# Altium schematic symbol library Switch.SchLib: 58 symbols
Pins are listed as number, name and electrical type; pins without a type are passive.

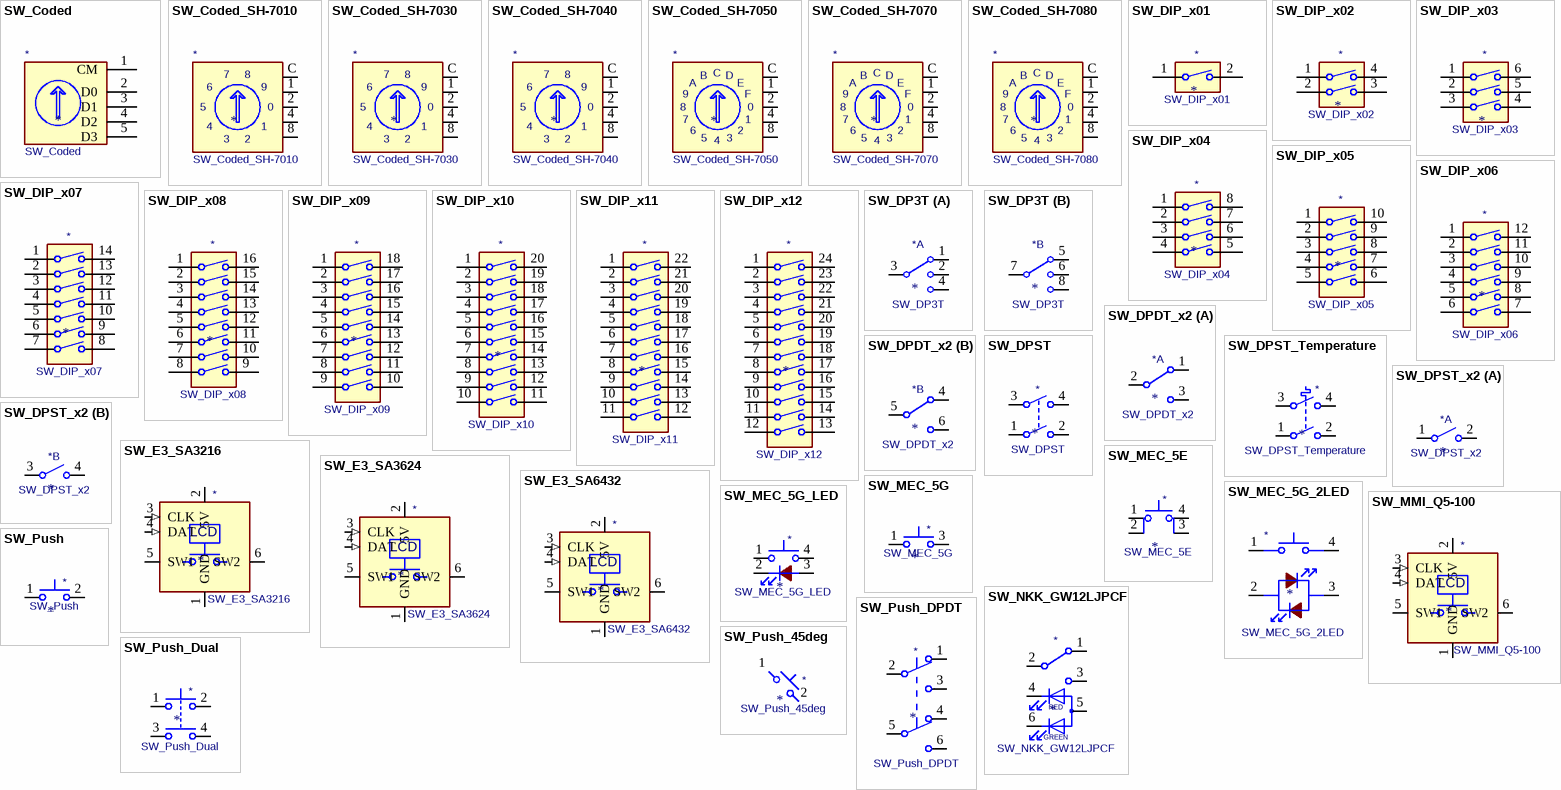
[diagram p0: symbols SW_Coded to SW_Push_Dual]

## SW_Coded
designator *  value SW_Coded
ki_keywords: rotary hex; ki_description: Rotary switch, 4-bit encoding; Supplier: ~
pins: 1 CM, 2 D0, 3 D1, 4 D2, 5 D3

## SW_Coded_SH-7010
designator *  value SW_Coded_SH-7010
ki_keywords: rotary bcd Real; ki_description: Rotary switch, 4-bit encoding, 10 positions, Real code; ki_fp_filters: Nidec*Copal*SH*7010*; Supplier: https://www.nidec-copal-electronics.com/e/catalog/switch/sh-7000.pdf
pins: 1, 2, 4, 8, C
text: 7; 6; 9; 5; 0; 3

## SW_Coded_SH-7030
designator *  value SW_Coded_SH-7030
ki_keywords: rotary bcd Complementary; ki_description: Rotary switch, 4-bit encoding, 10 positions, Complementary code; ki_fp_filters: Nidec*Copal*SH*7010*; Supplier: https://www.nidec-copal-electronics.com/e/catalog/switch/sh-7000.pdf
pins: 1, 2, 4, 8, C
text: 7; 6; 9; 5; 0; 3

## SW_Coded_SH-7040
designator *  value SW_Coded_SH-7040
ki_keywords: rotary bcd Gray; ki_description: Rotary switch, 4-bit encoding, 10 positions, Gray code; ki_fp_filters: Nidec*Copal*SH*7040*; Footprint: Button_Switch_SMD:Nidec_Copal_SH-7040B; Supplier: https://www.nidec-copal-electronics.com/e/catalog/switch/sh-7000.pdf
footprint Nidec_Copal_SH-7040B
pins: 1, 2, 4, 8, C
text: 7; 6; 9; 5; 0; 3

## SW_Coded_SH-7050
designator *  value SW_Coded_SH-7050
ki_keywords: rotary hex Real; ki_description: Rotary switch, 4-bit encoding, 16 positions, Real code; ki_fp_filters: Nidec*Copal*SH*7010*; Supplier: https://www.nidec-copal-electronics.com/e/catalog/switch/sh-7000.pdf
pins: 1, 2, 4, 8, C
text: B; D; A; E; 9; F; 0; 7; 6; 5; 3

## SW_Coded_SH-7070
designator *  value SW_Coded_SH-7070
ki_keywords: rotary hex Complementary; ki_description: Rotary switch, 4-bit encoding, 16 positions, Complementary code; ki_fp_filters: Nidec*Copal*SH*7010*; Supplier: https://www.nidec-copal-electronics.com/e/catalog/switch/sh-7000.pdf
pins: 1, 2, 4, 8, C
text: B; D; A; E; 9; F; 0; 7; 6; 5; 3

## SW_Coded_SH-7080
designator *  value SW_Coded_SH-7080
ki_keywords: rotary hex Gray; ki_description: Rotary switch, 4-bit encoding, 16 positions, Gray code; ki_fp_filters: Nidec*Copal*SH*7040*; Footprint: Button_Switch_SMD:Nidec_Copal_SH-7040B; Supplier: https://www.nidec-copal-electronics.com/e/catalog/switch/sh-7000.pdf
footprint Nidec_Copal_SH-7040B
pins: 1, 2, 4, 8, C
text: B; D; A; E; 9; F; 0; 7; 6; 5; 3

## SW_DIP_x01
designator *  value SW_DIP_x01
ki_keywords: dip switch; ki_description: 1x DIP Switch, Single Pole Single Throw (SPST) switch, small symbol; ki_fp_filters: SW?DIP?x1*; Supplier: ~
pins: 1, 2

## SW_DIP_x02
designator *  value SW_DIP_x02
ki_keywords: dip switch; ki_description: 2x DIP Switch, Single Pole Single Throw (SPST) switch, small symbol; ki_fp_filters: SW?DIP?x2*; Supplier: ~
pins: 1, 2, 3, 4

## SW_DIP_x03
designator *  value SW_DIP_x03
ki_keywords: dip switch; ki_description: 3x DIP Switch, Single Pole Single Throw (SPST) switch, small symbol; ki_fp_filters: SW?DIP?x3*; Supplier: ~
pins: 1, 2, 3, 4, 5, 6

## SW_DIP_x04
designator *  value SW_DIP_x04
ki_keywords: dip switch; ki_description: 4x DIP Switch, Single Pole Single Throw (SPST) switch, small symbol; ki_fp_filters: SW?DIP?x4*; Supplier: ~
pins: 1, 2, 3, 4, 5, 6, 7, 8

## SW_DIP_x05
designator *  value SW_DIP_x05
ki_keywords: dip switch; ki_description: 5x DIP Switch, Single Pole Single Throw (SPST) switch, small symbol; ki_fp_filters: SW?DIP?x5*; Supplier: ~
pins: 1, 2, 3, 4, 5, 6, 7, 8, 9, 10

## SW_DIP_x06
designator *  value SW_DIP_x06
ki_keywords: dip switch; ki_description: 6x DIP Switch, Single Pole Single Throw (SPST) switch, small symbol; ki_fp_filters: SW?DIP?x6*; Supplier: ~
pins: 1, 2, 3, 4, 5, 6, 7, 8, 9, 10, 11, 12

## SW_DIP_x07
designator *  value SW_DIP_x07
ki_keywords: dip switch; ki_description: 7x DIP Switch, Single Pole Single Throw (SPST) switch, small symbol; ki_fp_filters: SW?DIP?x7*; Supplier: ~
pins: 1, 2, 3, 4, 5, 6, 7, 8, 9, 10, 11, 12, 13, 14

## SW_DIP_x08
designator *  value SW_DIP_x08
ki_keywords: dip switch; ki_description: 8x DIP Switch, Single Pole Single Throw (SPST) switch, small symbol; ki_fp_filters: SW?DIP?x8*; Supplier: ~
pins: 1, 2, 3, 4, 5, 6, 7, 8, 9, 10, 11, 12, 13, 14, 15, 16

## SW_DIP_x09
designator *  value SW_DIP_x09
ki_keywords: dip switch; ki_description: 9x DIP Switch, Single Pole Single Throw (SPST) switch, small symbol; ki_fp_filters: SW?DIP?x9*; Supplier: ~
pins: 1, 2, 3, 4, 5, 6, 7, 8, 9, 10, 11, 12, 13, 14, 15, 16, 17, 18

## SW_DIP_x10
designator *  value SW_DIP_x10
ki_keywords: dip switch; ki_description: 10x DIP Switch, Single Pole Single Throw (SPST) switch, small symbol; ki_fp_filters: SW?DIP?x10*; Supplier: ~
pins: 1, 2, 3, 4, 5, 6, 7, 8, 9, 10, 11, 12, 13, 14, 15, 16, 17, 18, 19, 20

## SW_DIP_x11
designator *  value SW_DIP_x11
ki_keywords: dip switch; ki_description: 11x DIP Switch, Single Pole Single Throw (SPST) switch, small symbol; ki_fp_filters: SW?DIP?x11*; Supplier: ~
pins: 1, 2, 3, 4, 5, 6, 7, 8, 9, 10, 11, 12, 13, 14, 15, 16, 17, 18, 19, 20, 21, 22

## SW_DIP_x12
designator *  value SW_DIP_x12
ki_keywords: dip switch; ki_description: 12x DIP Switch, Single Pole Single Throw (SPST) switch, small symbol; ki_fp_filters: SW?DIP?x12*; Supplier: ~
pins: 1, 2, 3, 4, 5, 6, 7, 8, 9, 10, 11, 12, 13, 14, 15, 16, 17, 18, 19, 20, 21, 22, 23, 24

## SW_DP3T
designator *  value SW_DP3T
ki_keywords: switch dp3t ON-ON-ON; ki_description: Switch, three position, dual pole triple throw, 3 position switch, SP3T; ki_fp_filters: SW* DP3T*; Supplier: ~
part A pins: 1, 2, 3, 4
part B pins: 5, 6, 7, 8

## SW_DPDT_x2
designator *  value SW_DPDT_x2
ki_keywords: switch dual-pole double-throw DPDT spdt ON-ON; ki_description: Switch, dual pole double throw, separate symbols; ki_fp_filters: SW*DPDT*; Supplier: ~
part A pins: 1 A, 2 B, 3 C
part B pins: 4 A, 5 B, 6 C

## SW_DPST
designator *  value SW_DPST
ki_keywords: switch dual double-pole single-throw OFF-ON; ki_description: Double Pole Single Throw (DPST) Switch; Supplier: ~
pins: 1, 2, 3, 4

## SW_DPST_Temperature
designator *  value SW_DPST_Temperature
ki_keywords: temperature switch dual double-pole single-throw OFF-ON; ki_description: Double Pole Single Throw (DPST) Switch, temperature dependent; Supplier: ~
pins: 1, 2, 3, 4

## SW_DPST_x2
designator *  value SW_DPST_x2
ki_keywords: switch lever; ki_description: Single Pole Single Throw (SPST) switch, separate symbol; Supplier: ~
part A pins: 1 A, 2 B
part B pins: 3 A, 4 B

## SW_E3_SA3216
designator *  value SW_E3_SA3216
ki_keywords: switch normally-open pushbutton push-button LCD; ki_description: Push button switch with LCD screen; ki_fp_filters: SW?PUSH?LCD?E3?SAxxxx*; Supplier: http://www.e3-keys.com/files/SA%20Technical%20Datasheet%20v2.0.pdf
pins: 1 GND (power), 2 5V (power), 3 CLK (in), 4 DAT (in), 5 SW1, 6 SW2
text: LCD

## SW_E3_SA3624
designator *  value SW_E3_SA3624
ki_keywords: switch normally-open pushbutton push-button LCD; ki_description: Push button switch with LCD screen; ki_fp_filters: SW?PUSH?LCD?E3?SAxxxx*; Supplier: http://www.e3-keys.com/files/SA%20Technical%20Datasheet%20v2.0.pdf
pins: 1 GND (power), 2 5V (power), 3 CLK (in), 4 DAT (in), 5 SW1, 6 SW2
text: LCD

## SW_E3_SA6432
designator *  value SW_E3_SA6432
ki_keywords: switch normally-open pushbutton push-button LCD; ki_description: Push button switch with LCD screen; ki_fp_filters: SW?PUSH?LCD?E3?SAxxxx*; Supplier: http://www.e3-keys.com/files/SA%20Technical%20Datasheet%20v2.0.pdf
pins: 1 GND (power), 2 5V (power), 3 CLK (in), 4 DAT (in), 5 SW1, 6 SW2
text: LCD

## SW_MEC_5E
designator *  value SW_MEC_5E
ki_keywords: switch normally-open pushbutton push-button; ki_description: MEC 5E single pole normally-open tactile switch; ki_fp_filters: SW*MEC*5G*; Supplier: http://www.apem.com/int/index.php?controller=attachment&id_attachment=1371
pins: 1, 2, 3 K, 4 A

## SW_MEC_5G
designator *  value SW_MEC_5G
ki_keywords: switch normally-open pushbutton push-button; ki_description: MEC 5G single pole normally-open tactile switch; ki_fp_filters: SW*MEC*5G*; Supplier: http://www.apem.com/int/index.php?controller=attachment&id_attachment=488
pins: 1 A, 2 A hidden, 3 B, 4 B hidden

## SW_MEC_5G_2LED
designator *  value SW_MEC_5G_2LED
ki_keywords: switch normally-open pushbutton push-button LED; ki_description: MEC 5G single pole normally-open illuminated tactile switch with two LEDs; ki_fp_filters: SW*MEC*5G*; Supplier: http://www.apem.com/int/index.php?controller=attachment&id_attachment=488
pins: 1, 2, 3 K, 4 A

## SW_MEC_5G_LED
designator *  value SW_MEC_5G_LED
ki_keywords: switch normally-open pushbutton push-button LED; ki_description: MEC 5G single pole normally-open illuminated tactile switch; ki_fp_filters: SW*MEC*5G*; Supplier: http://www.apem.com/int/index.php?controller=attachment&id_attachment=488
pins: 1, 2, 3 K, 4 A

## SW_MMI_Q5-100
designator *  value SW_MMI_Q5-100
ki_keywords: switch normally-open pushbutton push-button LCD; ki_description: Push button switch with LCD screen; ki_fp_filters: SW?PUSH?LCD?E3?SAxxxx*; Supplier: http://latest.ledswitches.co.uk/media/pdf/Q5-PCB-V1-withQ5data.pdf
pins: 1 GND (power), 2 5V (power), 3 CLK (in), 4 DAT (in), 5 SW1, 6 SW2
text: LCD

## SW_NKK_GW12LJPCF
designator *  value SW_NKK_GW12LJPCF
ki_keywords: switch single-pole double-throw spdt ON-ON illuminated red green; ki_description: Switch, single pole double throw, illuminated paddle, red and green LEDs; ki_fp_filters: SW*NKK*GW12LJP*; Footprint: Button_Switch_THT:SW_NKK_GW12LJP; Supplier: http://www.nkkswitches.com/pdf/gwillum.pdf
footprint SW_NKK_GW12LJP
pins: 1 A, 2 B, 3 C, 4 KR, 5 A, 6 KG
text: RED; GREEN

## SW_Push
designator *  value SW_Push
ki_keywords: switch normally-open pushbutton push-button; ki_description: Push button switch, generic, two pins; Supplier: ~
pins: 1, 2

## SW_Push_45deg
designator *  value SW_Push_45deg
ki_keywords: switch normally-open pushbutton push-button; ki_description: Push button switch, normally open, two pins, 45° tilted; Supplier: ~
pins: 1, 2

## SW_Push_DPDT
designator *  value SW_Push_DPDT
ki_keywords: switch dual-pole double-throw spdt ON-ON; ki_description: Momentary Switch, dual pole double throw; Supplier: ~
pins: 1 A, 2 B, 3 C, 4 A, 5 B, 6 C

## SW_Push_Dual
designator *  value SW_Push_Dual
ki_keywords: switch normally-open pushbutton push-button; ki_description: Push button switch, generic, symbol, four pins; Supplier: ~
pins: 1, 2, 3, 4

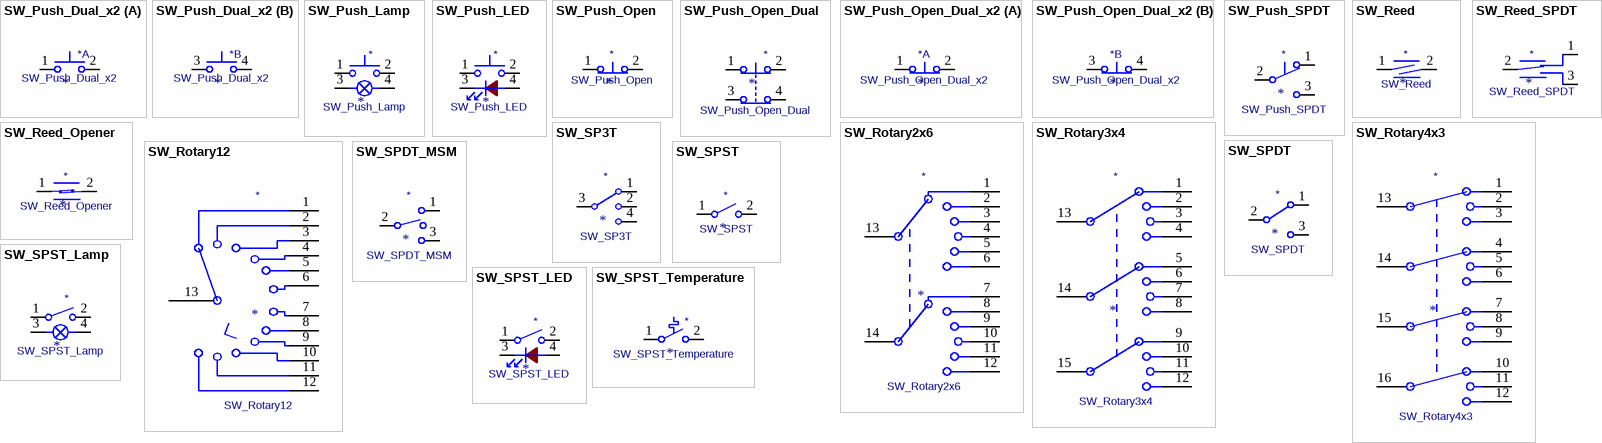
[diagram p1: symbols SW_Push_Dual_x2 to SW_SPST_Temperature]

## SW_Push_Dual_x2
designator *  value SW_Push_Dual_x2
ki_keywords: switch normally-open pushbutton push-button; ki_description: Push button switch, generic, separate symbols, four pins; Supplier: ~
part A pins: 1 C, 2 D
part B pins: 3 C, 4 D

## SW_Push_Lamp
designator *  value SW_Push_Lamp
ki_keywords: switch normally-open pushbutton push-button Lamp; ki_description: Push button switch with Signal Lamp, generic; Supplier: ~
pins: 1, 2, 3 L, 4 L

## SW_Push_LED
designator *  value SW_Push_LED
ki_keywords: switch normally-open pushbutton push-button LED; ki_description: Push button switch with LED, generic; Supplier: ~
pins: 1, 2, 3 K, 4 A

## SW_Push_Open
designator *  value SW_Push_Open
ki_keywords: switch normally-closed pushbutton push-button; ki_description: Push button switch, push-to-open, generic, two pins; Supplier: ~
pins: 1 A, 2 B

## SW_Push_Open_Dual
designator *  value SW_Push_Open_Dual
ki_keywords: switch normally-closed pushbutton push-button; ki_description: Push button switch, normally closed, generic, four pins; Supplier: ~
pins: 1, 2, 3, 4

## SW_Push_Open_Dual_x2
designator *  value SW_Push_Open_Dual_x2
ki_keywords: switch normally-closed pushbutton push-button; ki_description: Push button switch, push-to-open, generic, two pins; Supplier: ~
part A pins: 1, 2
part B pins: 3 1, 4 2

## SW_Push_SPDT
designator *  value SW_Push_SPDT
ki_keywords: switch single-pole double-throw spdt ON-ON; ki_description: Momentary Switch, single pole double throw; Supplier: ~
pins: 1 A, 2 B, 3 C

## SW_Reed
designator *  value SW_Reed
ki_keywords: reed magnetic switch; ki_description: reed switch; Supplier: ~
pins: 1, 2

## SW_Reed_Opener
designator *  value SW_Reed_Opener
ki_keywords: reed magnetic switch; ki_description: reed switch, default-closed; Supplier: ~
pins: 1, 2

## SW_Reed_SPDT
designator *  value SW_Reed_SPDT
ki_keywords: reed magnetic switch SPDT; ki_description: SPDT reed switch; Supplier: ~
pins: 1, 2, 3

## SW_Rotary2x6
designator *  value SW_Rotary2x6
ki_keywords: rotary switch; ki_description: 2 rotary switch with 6 positions; Supplier: http://cdn-reichelt.de/documents/datenblatt/C200/DS-Serie%23LOR.pdf
pins: 1, 2, 3, 4, 5, 6, 7, 8, 9, 10, 11, 12, 13, 14

## SW_Rotary3x4
designator *  value SW_Rotary3x4
ki_keywords: rotary switch; ki_description: 3 rotary switches with 4 positions; Supplier: http://cdn-reichelt.de/documents/datenblatt/C200/DS-Serie%23LOR.pdf
pins: 1, 2, 3, 4, 5, 6, 7, 8, 9, 10, 11, 12, 13, 14, 15

## SW_Rotary4x3
designator *  value SW_Rotary4x3
ki_keywords: rotary switch; ki_description: 4 rotary switches with 3 positions; Supplier: http://cdn-reichelt.de/documents/datenblatt/C200/DS-Serie%23LOR.pdf
pins: 1, 2, 3, 4, 5, 6, 7, 8, 9, 10, 11, 12, 13, 14, 15, 16

## SW_Rotary12
designator *  value SW_Rotary12
ki_keywords: rotary switch; ki_description: rotary switch with 12 positions; Supplier: http://cdn-reichelt.de/documents/datenblatt/C200/DS-Serie%23LOR.pdf
pins: 1, 2, 3, 4, 5, 6, 7, 8, 9, 10, 11, 12, 13

## SW_SP3T
designator *  value SW_SP3T
ki_keywords: switch sp3t ON-ON-ON; ki_description: Switch, three position, single pole triple throw, 3 position switch, SP3T; ki_fp_filters: SW* SP3T*; Supplier: ~
pins: 1, 2, 3, 4

## SW_SPDT
designator *  value SW_SPDT
ki_keywords: switch single-pole double-throw spdt ON-ON; ki_description: Switch, single pole double throw; Supplier: ~
pins: 1 A, 2 B, 3 C

## SW_SPDT_MSM
designator *  value SW_SPDT_MSM
ki_keywords: switch spdt single-pole double-throw ON-OFF-ON; ki_description: Switch, single pole double throw, center OFF position; Supplier: ~
pins: 1, 2, 3

## SW_SPST
designator *  value SW_SPST
ki_keywords: switch lever; ki_description: Single Pole Single Throw (SPST) switch; Supplier: ~
pins: 1 A, 2 B

## SW_SPST_Lamp
designator *  value SW_SPST_Lamp
ki_keywords: switch SPST LED OFF-ON lamp; ki_description: Single Pole Single Throw (SPST) switch with signal lamp, generic; Supplier: ~
pins: 1, 2, 3 L, 4 L

## SW_SPST_LED
designator *  value SW_SPST_LED
ki_keywords: switch SPST LED OFF-ON; ki_description: Single Pole Single Throw (SPST) switch with LED, generic; Supplier: ~
pins: 1, 2, 3 K, 4 A

## SW_SPST_Temperature
designator *  value SW_SPST_Temperature
ki_keywords: temperature switch; ki_description: Single Pole Single Throw (SPST) switch, temperature dependent; Supplier: ~
pins: 1 A, 2 B